# EAGLE library part CONNECTOR-IO4-IOB (library SPCoast)
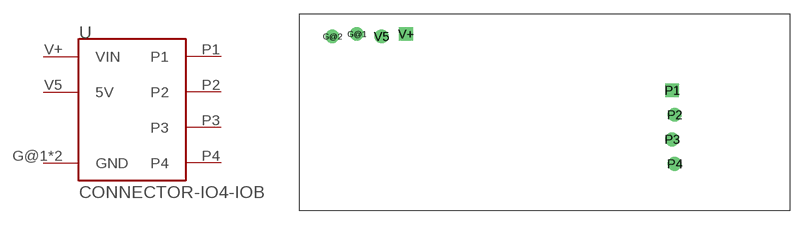
[diagram p59: symbol with the pads of IO4-IOB; footprint IO4-IOB]

Designator prefix -

## CONNECTOR-IO4-IOBBARE  [IO4-IOB]
G@1  GND  sup
G@2  GND  sup
P1  P1
P2  P2
P3  P3
P4  P4
V5  5V  sup
V+  VIN  sup

## Footprint IO4-IOB (pad centres in mm)
drill 0.9: G@1 5.969,18.288; G@2 3.429,18.034; P2 38.862,9.906; P3 38.608,7.366; P4 38.862,4.826; V5 8.509,18.034
drill 0.9 square: P1 38.608,12.446; V+ 11.049,18.288